# EAGLE library part LSM303C (library Residual-DigitalIC)
Ultra-compact high-performance eCompass module: 3D accelerometer and 3D magnetometer http://www.st.com/st-web-ui/static/active/en/resource/technical/document/datasheet/DM00089896.pdf
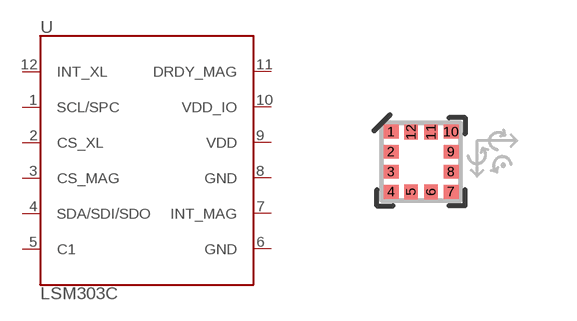
[diagram p10: symbol with the pads of LGA-12; footprint LGA-12]

Designator prefix U

## LSM303C  [LGA-12]
1  SCL/SPC
2  CS_XL
3  CS_MAG
4  SDA/SDI/SDO
5  C1
6  GND
7  INT_MAG
8  GND
9  VDD
10  VDD_IO
11  DRDY_MAG
12  INT_XL

## Footprint LGA-12 (pad centres in mm)
LGA-12 2x2x1 mm 12-lead 0.50mm pitch Pads are 0.25x0.275 mm Derrived from the following ST PDFs http://www.st.com/st-web-ui/static/active/en/resource/technical/document/datasheet/DM00089896.pdf http://www.st.com/web/en/resource/technical/document/technical_note/CD00134799.pdf
smd 0.375 x 0.35: 1 -0.75,0.75; 2 -0.75,0.25; 3 -0.75,-0.25; 4 -0.75,-0.75; 7 0.75,-0.75; 8 0.75,-0.25; 9 0.75,0.25; 10 0.75,0.75
smd 0.35 x 0.375: 5 -0.25,-0.75; 6 0.25,-0.75; 11 0.25,0.75; 12 -0.25,0.75